# EAGLE library part RELAY-HJR-4102-L-05V (library Seeed-OPL-Relay)
315030001
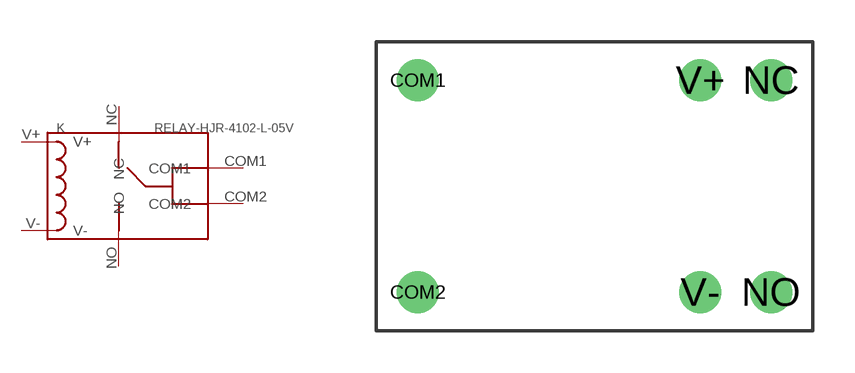
[diagram p1: symbol with the pads of REY6-15.4X10.4X11.3MM; footprint REY6-15.4X10.4X11.3MM]

Designator prefix K

## RELAY-HJR-4102-L-05VHJR-4102-L-05V  [REY6-15.4X10.4X11.3MM]
COM1  COM1
COM2  COM2
NC  NC
NO  NO
V+  V+
V-  V-

## Footprint REY6-15.4X10.4X11.3MM (pad centres in mm)
drill 1: COM1 -6.35,3.81; COM2 -6.35,-3.81; NC 6.35,3.81; NO 6.35,-3.81; V+ 3.81,3.81; V- 3.81,-3.81